# EAGLE library part MOLEX_SL_36 (library molex-sl-connectors_jw)
Molex SL-Series PCB Header, 36-Pos, 0.1" (2.54mm) Centers
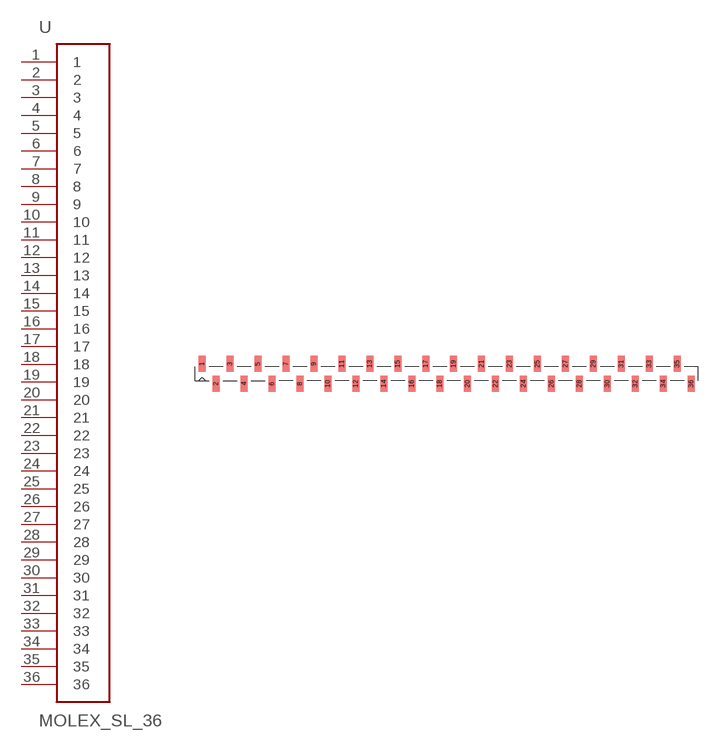
[diagram p30: symbol with the pads of SL_87898_36; footprint SL_87898_36]

Designator prefix -

## MOLEX_SL_36-87898  [SL_87898_36]
1  1
2  2
3  3
4  4
5  5
6  6
7  7
8  8
9  9
10  10
11  11
12  12
13  13
14  14
15  15
16  16
17  17
18  18
19  19
20  20
21  21
22  22
23  23
24  24
25  25
26  26
27  27
28  28
29  29
30  30
31  31
32  32
33  33
34  34
35  35
36  36

## Footprint SL_87898_36 (pad centres in mm)
SMD Vertical Header (no latch or pegs) Package also includes Pick-N-Place Cap Tube packaging w/o Pick-N-Place Cap: 87898-3621 87898-3622 87898-3624 87898-3625 87898-3626 Tube packaging w/ Pick-N-Place Cap: 87898-3631 87898-3632 87898-3634 87898-3635 87898-3636
smd 1.27 x 2.946: 1 -44.45,1.803; 2 -41.91,-1.803; 3 -39.37,1.803; 4 -36.83,-1.803; 5 -34.29,1.803; 6 -31.75,-1.803; 7 -29.21,1.803; 8 -26.67,-1.803; 9 -24.13,1.803; 10 -21.59,-1.803; 11 -19.05,1.803; 12 -16.51,-1.803; 13 -13.97,1.803; 14 -11.43,-1.803; 15 -8.89,1.803; 16 -6.35,-1.803; 17 -3.81,1.803; 18 -1.27,-1.803; 19 1.27,1.803; 20 3.81,-1.803; 21 6.35,1.803; 22 8.89,-1.803; 23 11.43,1.803; 24 13.97,-1.803; 25 16.51,1.803; 26 19.05,-1.803; 27 21.59,1.803; 28 24.13,-1.803; 29 26.67,1.803; 30 29.21,-1.803; 31 31.75,1.803; 32 34.29,-1.803; 33 36.83,1.803; 34 39.37,-1.803; 35 41.91,1.803; 36 44.45,-1.803